# Altium schematic symbol library STM32F030R8TR.Schlib: 1 symbol
Pins are listed as number, name and electrical type; pins without a type are passive.

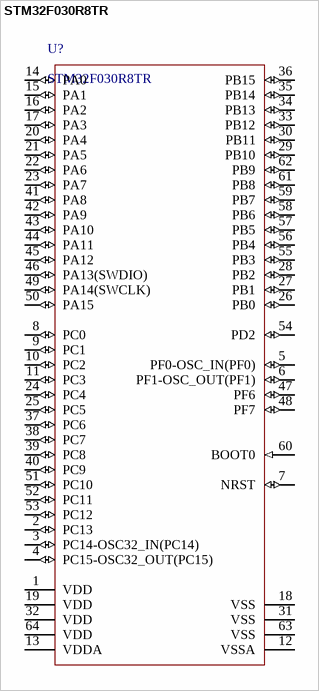
[diagram p0: symbol STM32F030R8TR]

## STM32F030R8TR
designator U?
pins: 1 VDD (power) "Complementary power supply", 2 PC13 (io) "PC13/RTC_TAMP1,RTC_TS,RTC_OUT,WKUP2", 3 PC14-OSC32_IN(PC14) (io) "PC14-OSC32_IN(PC14)/OSC32_IN", 4 PC15-OSC32_OUT(PC15) (io) "PC15-OSC32_OUT(PC15)/OSC32_OUT", 5 PF0-OSC_IN(PF0) (io) "PF0-OSC_IN(PF0)/I2C1_SDA/OSC_IN", 6 PF1-OSC_OUT(PF1) (io) "PF1-OSC_OUT(PF1)/I2C1_SCL/OSC_OUT", 7 NRST (io) "Device reset input/internal reset output(active low)", 8 PC0 (io) "PC0/EVENTOUT,USART6_TX,USART7_TX/ADC_IN10", 9 PC1 (io) "PC1/EVENTOUT,USART6_RX,USART7_RX/ADC_IN11", 10 PC2 (io) "PC2/SPI2_MISO,EVENTOUT/ADC_IN12", 11 PC3 (io) "PC3/SPI2_MOSI,EVENTOUT/ADC_IN13", 12 VSSA (power) "Analog ground", 13 VDDA (power) "Analog power supply", 14 PA0 (io) "PA0/USART2_CTS,USART4_TX/ADC_IN0,RTC_TAMP2,WKUP1", 15 PA1 (io) "PA1/USART2_RTS,EVENTOUT,USART4_RX/ADC_IN1", 16 PA2 (io) "PA2/USART2_TX,TIM15_CH1/ADC_IN2", 17 PA3 (io) "PA3/USART2_RX,TIM15_CH2/ADC_IN3", 18 VSS (power) "Ground", 19 VDD (power) "Digital power supply", 20 PA4 (io) "PA4/SPI1_NSS,USART2_CK,TIM14_CH1,USART6_TX/ADC_IN4", 21 PA5 (io) "PA5/SPI1_SCK,USART6_RX/ADC_IN5", 22 PA6 (io) "PA6/SPI1_MISO,TIM3_CH1,TIM1_BKIN,TIM16_CH1,EVENTOUT,USART3_CTS/ADC_IN6", 23 PA7 (io) "PA7/SPI1_MOSI,TIM3_CH2,TIM14_CH1,TIM1_CH1N,TIM17_CH1,EVENTOUT/ADC_IN7", 24 PC4 (io) "PC4/EVENTOUT,USART3_TX/ADC_IN14", 25 PC5 (io) "PC5/USART3_RX/ADC_IN15", 26 PB0 (io) "PB0/TIM3_CH3,TIM1_CH2N,EVENTOUT,USART3_CK/ADC_IN8", 27 PB1 (io) "PB1/TIM3_CH4,TIM14_CH1,TIM1_CH3N,USART3_RTS/ADC_IN9", 28 PB2 (io), 29 PB10 (io) "PB10/SPI2_SCK,I2C2_SCL,USART3_TX", 30 PB11 (io) "PB11/I2C2_SDA,EVENTOUT,USART3_RX", 31 VSS (power) "Ground", 32 VDD (power) "Digital power supply", 33 PB12 (io) "PB12/SPI2_NSS,TIM1_BKIN,EVENTOUT,USART3_CK", 34 PB13 (io) "PB13/SPI2_SCK,I2C2_SDA,TIM1_CH1N,USART3_CTS", 35 PB14 (io) "PB14/SPI2_MISO,I2C2_SDA,TIM1_CH2N,TIM15_CH1,USART3_RTS", 36 PB15 (io) "PB15/SPI2_MOSI,TIM1_CH3N,TIM15_CH1N,TIM15_CH2/RTC_REFIN", 37 PC6 (io) "PC6/TIM3_CH1", 38 PC7 (io) "PC7/TIM3_CH2", 39 PC8 (io) "PC8/TIM3_CH3", 40 PC9 (io) "PC9/TIM3_CH4", 41 PA8 (io) "PA8/USART1_CK,TIM1_CH1,EVENTOUT,MCO", 42 PA9 (io) "PA9/USART1_TX,TIM1_CH2,TIM15_BKIN,I2C1_SCL", 43 PA10 (io) "PA10/USART1_RX,TIM1_CH3,TIM17_BKIN,I2C1_SDA", 44 PA11 (io) "PA11/USART1_CTS,TIM1_CH4,EVENTOUT,I2C2_SCL", 45 PA12 (io) "PA12/USART1_RTS,TIM1_ETR,EVENTOUT,I2C2_SDA", 46 PA13(SWDIO) (io) "PA13(SWDIO)/IR_OUT,SWDIO", 47 PF6 (io) "PF6/I2C1_SCL,I2C2_SCL", 48 PF7 (io) "PF7/I2C1_SDA,I2C2_SDA", 49 PA14(SWCLK) (io) "PA14(SWCLK)/USART2_TX,SWCLK", 50 PA15 (io) "PA15/SPI1_NSS,USART2_RX,USART4_RTS,EVENTOUT", 51 PC10 (io) "PC10/USART3_TX,USART4_TX", 52 PC11 (io) "PC11/USART3_RX,USART4_RX", 53 PC12 (io) "PC12/USART3_CK,USART4_CK,USART5_TX", 54 PD2 (io) "PD2/TIM3_ETR,USART3_RTS,USART5_RX", 55 PB3 (io) "PB3/SPI1_SCK,EVENTOUT,USART5_TX", 56 PB4 (io) "PB4/SPI1_MISO,TIM3_CH1,EVENTOUT,TIM17_BKIN,USART5_RX", 57 PB5 (io) "PB5/SPI1_MOSI,I2C1_SMBA,TIM16_BKIN,TIM3_CH2,USART5_CK_RTS", 58 PB6 (io) "PB6/I2C1_SCL,USART1_TX,TIM16_CH1N", 59 PB7 (io) "PB7/I2C1_SDA,USART1_RX,TIM17_CH1N,USART4_CTS", 60 BOOT0 (in) "Boot memory selection", 61 PB8 (io) "PB8/I2C1_SCL,TIM16_CH1", 62 PB9 (io) "PB9/I2C1_SDA,IR_OUT,SPI2_NSS,TIM17_CH1,EVENTOUT", 63 VSS (power) "Ground", 64 VDD (power) "Digital power supply"